# Altium footprint library PCB1.PcbLib: 40 footprints (part 1 of 3)
Each footprint in its own frame and in the unit in brackets; x right, y up, seen from the top. Pads: shape width x height; smd on the part's side, far side on the other; paste and mask are expansions set on the pad; w line width, h text height; cw(c..) or ccw(c..) is an arc to the next point about the centre after c.
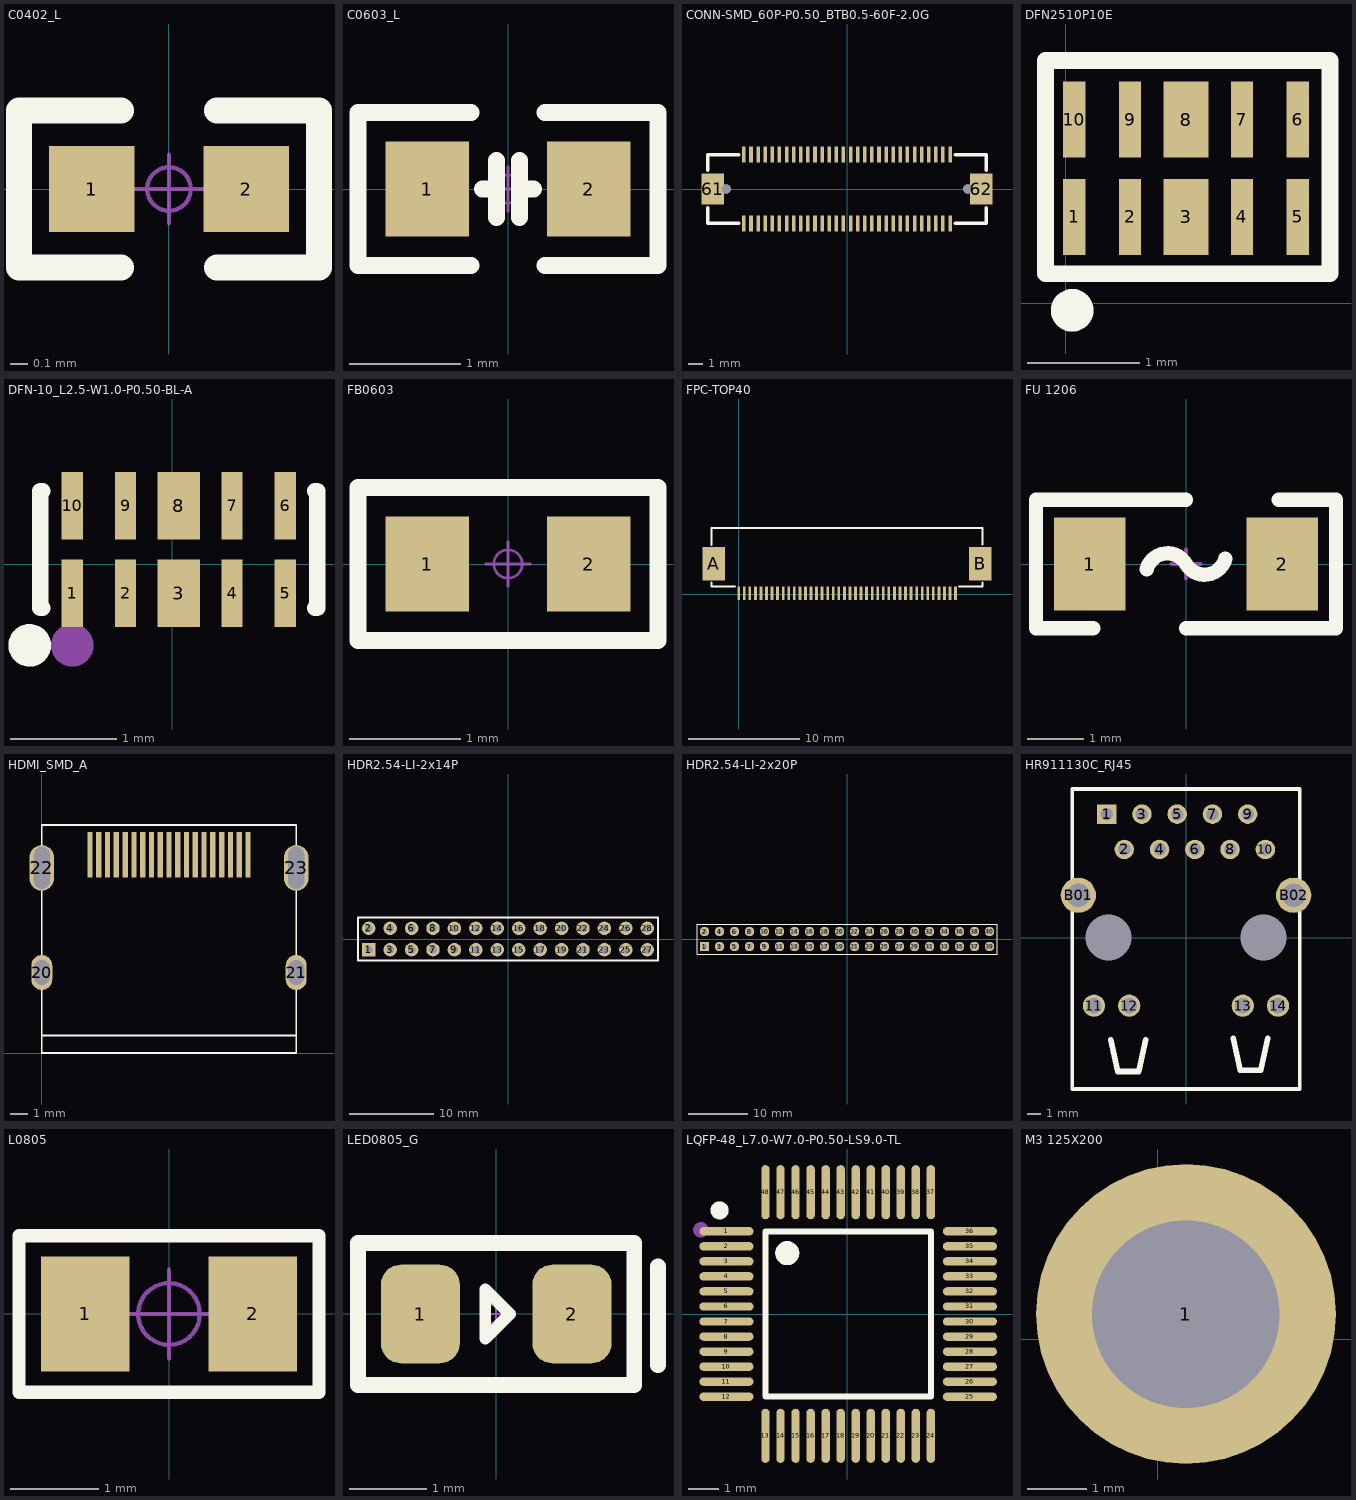
[diagram p0: the footprints below, top view; thin cyan lines are the x and y axes]

## C0402_L [mm]
pads (2):
  rect 0.5x0.5 smd: 1(-0.45,0) 2(0.45,0)
Top Overlay:
  lines w0.152: -0.279,-0.457 -0.875,-0.457 -0.875,0.457 -0.279,0.457 ; 0.279,-0.457 0.875,-0.457 0.875,0.457 0.279,0.457
Mechanical 15:
  circle w0.025: c0,0 r0.127
  lines w0.025: -0.2,0 0.2,0 ; 0,-0.2 0,0.2
3D body "C0402-B-2S.stp": height 0.5, standoff 0, extent -0.5,-0.25 0.5,0.25

## C0603_L [mm]
pads (2):
  rect 0.75x0.85 smd: 1(-0.725,0) 2(0.725,0)
Top Overlay:
  lines w0.152: -0.33,-0.686 -1.346,-0.686 -1.346,0.686 -0.33,0.686 ; -0.229,0 -0.102,0 ; -0.102,-0.254 -0.102,0.254 ; 0.102,-0.254 0.102,0.254 ; 0.102,0 0.229,0 ; 0.33,-0.686 1.346,-0.686 1.346,0.686 0.33,0.686
Mechanical 15:
  circle w0.025: c0,0 r0.127
  lines w0.025: -0.2,0 0.2,0 ; 0,-0.2 0,0.2
3D body "C0603H08-2S.stp": height 0.8, standoff 0, extent -0.8,-0.4 0.8,0.4

## CONN-SMD_60P-P0.50_BTB0.5-60F-2.0G [mm]
pads (64):
  rect 0.25x1.15 smd paste+0 mask+0.051: 1(-7.25,2.425) 2(-7.25,-2.425) 3(-6.75,2.425) 4(-6.75,-2.425) 5(-6.25,2.425) 6(-6.25,-2.425) 7(-5.75,2.425) 8(-5.75,-2.425) 9(-5.25,2.425) 10(-5.25,-2.425) 11(-4.75,2.425) 12(-4.75,-2.425) 13(-4.25,2.425) 14(-4.25,-2.425) 15(-3.75,2.425) 16(-3.75,-2.425) 17(-3.25,2.425) 18(-3.25,-2.425) 19(-2.75,2.425) 20(-2.75,-2.425) 21(-2.25,2.425) 22(-2.25,-2.425) 23(-1.75,2.425) 24(-1.75,-2.425) 25(-1.25,2.425) 26(-1.25,-2.425) 27(-0.75,2.425) 28(-0.75,-2.425) 29(-0.25,2.425) 30(-0.25,-2.425) 31(0.25,2.425) 32(0.25,-2.425) 33(0.75,2.425) 34(0.75,-2.425) 35(1.25,2.425) 36(1.25,-2.425) 37(1.75,2.425) 38(1.75,-2.425) 39(2.25,2.425) 40(2.25,-2.425) 41(2.75,2.425) 42(2.75,-2.425) 43(3.25,2.425) 44(3.25,-2.425) 45(3.75,2.425) 46(3.75,-2.425) 47(4.25,2.425) 48(4.25,-2.425) 49(4.75,2.425) 50(4.75,-2.425) 51(5.25,2.425) 52(5.25,-2.425) 53(5.75,2.425) 54(5.75,-2.425) 55(6.25,2.425) 56(6.25,-2.425) 57(6.75,2.425) 58(6.75,-2.425) 59(7.25,2.425) 60(7.25,-2.425)
  rect 1.6x2.2 smd paste+0 mask+0.051: 61(-9.45,0) 62(9.45,0)
  round 0.65 hole 0.65 unplated paste+0: ""(-8.5,0) ""(8.5,0)
Top Overlay:
  lines w0.254: -9.8,-1.331 -9.8,-2.4 -9.5,-2.4 ; -9.8,1.331 -9.8,2.4 -7.606,2.4 ; -9.7,-2.4 -7.606,-2.4 ; 7.606,-2.4 9.8,-2.4 9.8,-1.331 ; 7.606,2.4 9.8,2.4 9.8,1.331
Mechanical 15:
  circle w0.25: c-8.5,0 r0.125
  circle w0.25: c8.5,0 r0.125

## DFN2510P10E [mm]
pads (10):
  rect 0.2x0.68 smd: 1(0.075,0.771) 2(0.575,0.771) 4(1.575,0.771) 5(2.075,0.771) 6(2.075,1.641) 7(1.575,1.641) 9(0.575,1.641) 10(0.075,1.641)
  rect 0.4x0.68 smd: 3(1.075,0.771) 8(1.075,1.641)
Top Overlay:
  circle w0.254: c0.059,-0.064 r0.064
  lines w0.15: -0.179,0.263 -0.179,2.168 2.361,2.168 2.361,0.263 -0.179,0.263

## DFN-10_L2.5-W1.0-P0.50-BL-A [mm]
pads (10):
  rect 0.2x0.633 smd paste+0 mask+0.051: 1(-0.938,-0.276) 2(-0.438,-0.276) 4(0.562,-0.276) 5(1.062,-0.276) 6(1.062,0.548) 7(0.562,0.548) 9(-0.438,0.548) 10(-0.938,0.548)
  rect 0.4x0.633 smd paste+0 mask+0.051: 3(0.062,-0.276) 8(0.062,0.548)
Top Overlay:
  circle w0.2: c-1.338,-0.764 r0.1
  lines w0.152: -1.218,-0.414 -1.238,-0.414 -1.238,0.686 -1.218,0.686 ; 1.342,-0.414 1.362,-0.414 1.362,0.686 1.342,0.686
Mechanical 15:
  circle w0.2: c-0.938,-0.764 r0.1

## FB0603 [mm]
pads (2):
  rect 0.75x0.85 smd: 1(-0.725,0) 2(0.725,0)
Top Overlay:
  lines w0.152: -1.346,-0.686 1.346,-0.686 1.346,0.686 -1.346,0.686 -1.346,-0.686
Mechanical 15:
  circle w0.025: c0,0 r0.127
  lines w0.025: -0.2,0 0.2,0 ; 0,-0.2 0,0.2
3D body "L0603H08-2S.stp": height 0.8, standoff 0, extent -0.8,-0.4 0.8,0.4

## FPC-TOP40 [mm]
pads (42):
  rect 0.25x1.2 smd: 1(0,0.102) 2(0.5,0.102) 3(1,0.102) 4(1.5,0.102) 5(2,0.102) 6(2.5,0.102) 7(3,0.102) 8(3.5,0.102) 9(4,0.102) 10(4.5,0.102) 11(5,0.102) 12(5.5,0.102) 13(6,0.102) 14(6.5,0.102) 15(7,0.102) 16(7.5,0.102) 17(8,0.102) 18(8.5,0.102) 19(9,0.102) 20(9.5,0.102) 21(10,0.102) 22(10.5,0.102) 23(11,0.102) 24(11.5,0.102) 25(12,0.102) 26(12.5,0.102) 27(13,0.102) 28(13.5,0.102) 29(14,0.102) 30(14.5,0.102) 31(15,0.102) 32(15.5,0.102) 33(16,0.102) 34(16.5,0.102) 35(17,0.102) 36(17.5,0.102) 37(18,0.102) 38(18.5,0.102) 39(19,0.102) 40(19.5,0.102)
  rect 2x3 smd: A(-2.25,2.754) B(21.725,2.754)
Top Overlay:
  lines w0.127: -2.45,0.731 -2.438,0.719
  lines w0.152: -2.45,0.719 -0.305,0.719 ; -2.45,0.731 -2.45,1.067 ; -2.45,4.445 -2.45,5.969 21.925,5.969 21.925,4.47 ; 19.794,0.711 21.925,0.711 21.925,1.067

## FU 1206 [mil]
pads (2):
  rect 50x65 smd: 1(-67.5,0) 2(67.5,0)
Top Overlay:
  lines w10: -90,45 0,45 ; -65,-45 -105,-45 -105,45 -65,45 ; -27.48,-3.62 cw(c-12.99,-7.5) 0,0 ccw(c12.99,7.5) 27.48,3.62 ; 0,-45 90,-45 ; 65,-45 105,-45 105,45 65,45
Mechanical 15:
  lines w3: -10,0 10,0 ; 0,-10 0,10
3D body "FU 01206.STEP": height 34.25, standoff 0, extent -62.99,-31.89 62.99,31.89

## HDMI_SMD_A [mm]
pads (23):
  rect 0.3x2.6 smd: 1(11.75,11.31) 2(11.25,11.31) 3(10.75,11.31) 4(10.25,11.31) 5(9.75,11.31) 6(9.25,11.31) 7(8.75,11.31) 8(8.25,11.31) 9(7.75,11.31) 10(7.25,11.31) 11(6.75,11.31) 12(6.25,11.31) 13(5.75,11.31) 14(5.25,11.31) 15(4.75,11.31) 16(4.25,11.31) 17(3.75,11.31) 18(3.25,11.31) 19(2.75,11.31)
  oval 1.2x2 hole 0.9 slot 1.4 at 90 deg: 20(0,4.59) 21(14.5,4.59)
  oval 1.4x2.6 hole 0.9 slot 2.4 at 90 deg: 22(0,10.55) 23(14.5,10.55)
Top Overlay:
  lines w0.1: 0,1 14.5,1 ; 0,0 0,13 14.5,13 14.5,0 0,0

## HDR2.54-LI-2x14P [mm]
pads (28):
  rect 1.6x1.6 hole 0.9: 1(-16.51,-1.27)
  round 1.6 hole 0.9: 2(-16.51,1.27) 3(-13.97,-1.27) 4(-13.97,1.27) 5(-11.43,-1.27) 6(-11.43,1.27) 7(-8.89,-1.27) 8(-8.89,1.27) 9(-6.35,-1.27) 10(-6.35,1.27) 11(-3.81,-1.27) 12(-3.81,1.27) 13(-1.27,-1.27) 14(-1.27,1.27) 15(1.27,-1.27) 16(1.27,1.27) 17(3.81,-1.27) 18(3.81,1.27) 19(6.35,-1.27) 20(6.35,1.27) 21(8.89,-1.27) 22(8.89,1.27) 23(11.43,-1.27) 24(11.43,1.27) 25(13.97,-1.27) 26(13.97,1.27) 27(16.51,-1.27) 28(16.51,1.27)
Top Overlay:
  lines w0.2: -17.78,-2.54 -17.78,2.54 17.78,2.54 17.78,-2.54 -17.78,-2.54
3D body "HDR2.54-1x2P.STEP": height 8.5, standoff -3, extent -15.24,-2.54 -12.7,2.54
3D body "HDR2.54-1x2P.STEP": height 8.5, standoff -3, extent -17.78,-2.54 -15.24,2.54
3D body "HDR2.54-1x2P.STEP": height 8.5, standoff -3, extent -10.16,-2.54 -7.62,2.54
3D body "HDR2.54-1x2P.STEP": height 8.5, standoff -3, extent -12.7,-2.54 -10.16,2.54
3D body "HDR2.54-1x2P.STEP": height 8.5, standoff -3, extent -5.08,-2.54 -2.54,2.54
3D body "HDR2.54-1x2P.STEP": height 8.5, standoff -3, extent -7.62,-2.54 -5.08,2.54
3D body "HDR2.54-1x2P.STEP": height 8.5, standoff -3, extent 0,-2.54 2.54,2.54
3D body "HDR2.54-1x2P.STEP": height 8.5, standoff -3, extent -2.54,-2.54 0,2.54
3D body "HDR2.54-1x2P.STEP": height 8.5, standoff -3, extent 5.08,-2.54 7.62,2.54
3D body "HDR2.54-1x2P.STEP": height 8.5, standoff -3, extent 2.54,-2.54 5.08,2.54
3D body "HDR2.54-1x2P.STEP": height 8.5, standoff -3, extent 10.16,-2.54 12.7,2.54
3D body "HDR2.54-1x2P.STEP": height 8.5, standoff -3, extent 7.62,-2.54 10.16,2.54
3D body "HDR2.54-1x2P.STEP": height 8.5, standoff -3, extent 15.24,-2.54 17.78,2.54
3D body "HDR2.54-1x2P.STEP": height 8.5, standoff -3, extent 12.7,-2.54 15.24,2.54

## HDR2.54-LI-2x20P [mm]
pads (40):
  rect 1.6x1.6 hole 0.9: 1(-24.13,-1.27)
  round 1.6 hole 0.9: 2(-24.13,1.27) 3(-21.59,-1.27) 4(-21.59,1.27) 5(-19.05,-1.27) 6(-19.05,1.27) 7(-16.51,-1.27) 8(-16.51,1.27) 9(-13.97,-1.27) 10(-13.97,1.27) 11(-11.43,-1.27) 12(-11.43,1.27) 13(-8.89,-1.27) 14(-8.89,1.27) 15(-6.35,-1.27) 16(-6.35,1.27) 17(-3.81,-1.27) 18(-3.81,1.27) 19(-1.27,-1.27) 20(-1.27,1.27) 21(1.27,-1.27) 22(1.27,1.27) 23(3.81,-1.27) 24(3.81,1.27) 25(6.35,-1.27) 26(6.35,1.27) 27(8.89,-1.27) 28(8.89,1.27) 29(11.43,-1.27) 30(11.43,1.27) 31(13.97,-1.27) 32(13.97,1.27) 33(16.51,-1.27) 34(16.51,1.27) 35(19.05,-1.27) 36(19.05,1.27) 37(21.59,-1.27) 38(21.59,1.27) 39(24.13,-1.27) 40(24.13,1.27)
Top Overlay:
  lines w0.2: -25.4,-2.54 -25.4,2.54 25.4,2.54 25.4,-2.54 -25.4,-2.54
3D body "HDR2.54-1x2P.STEP": height 8.5, standoff -3, extent -22.86,-2.54 -20.32,2.54
3D body "HDR2.54-1x2P.STEP": height 8.5, standoff -3, extent -25.4,-2.54 -22.86,2.54
3D body "HDR2.54-1x2P.STEP": height 8.5, standoff -3, extent -17.78,-2.54 -15.24,2.54
3D body "HDR2.54-1x2P.STEP": height 8.5, standoff -3, extent -20.32,-2.54 -17.78,2.54
3D body "HDR2.54-1x2P.STEP": height 8.5, standoff -3, extent -12.7,-2.54 -10.16,2.54
3D body "HDR2.54-1x2P.STEP": height 8.5, standoff -3, extent -15.24,-2.54 -12.7,2.54
3D body "HDR2.54-1x2P.STEP": height 8.5, standoff -3, extent -7.62,-2.54 -5.08,2.54
3D body "HDR2.54-1x2P.STEP": height 8.5, standoff -3, extent -10.16,-2.54 -7.62,2.54
3D body "HDR2.54-1x2P.STEP": height 8.5, standoff -3, extent -2.54,-2.54 0,2.54
3D body "HDR2.54-1x2P.STEP": height 8.5, standoff -3, extent -5.08,-2.54 -2.54,2.54
3D body "HDR2.54-1x2P.STEP": height 8.5, standoff -3, extent 2.54,-2.54 5.08,2.54
3D body "HDR2.54-1x2P.STEP": height 8.5, standoff -3, extent 0,-2.54 2.54,2.54
3D body "HDR2.54-1x2P.STEP": height 8.5, standoff -3, extent 7.62,-2.54 10.16,2.54
3D body "HDR2.54-1x2P.STEP": height 8.5, standoff -3, extent 5.08,-2.54 7.62,2.54
3D body "HDR2.54-1x2P.STEP": height 8.5, standoff -3, extent 12.7,-2.54 15.24,2.54
3D body "HDR2.54-1x2P.STEP": height 8.5, standoff -3, extent 10.16,-2.54 12.7,2.54
3D body "HDR2.54-1x2P.STEP": height 8.5, standoff -3, extent 17.78,-2.54 20.32,2.54
3D body "HDR2.54-1x2P.STEP": height 8.5, standoff -3, extent 15.24,-2.54 17.78,2.54
3D body "HDR2.54-1x2P.STEP": height 8.5, standoff -3, extent 22.86,-2.54 25.4,2.54
3D body "HDR2.54-1x2P.STEP": height 8.5, standoff -3, extent 20.32,-2.54 22.86,2.54

## HR911130C_RJ45 [mm]
pads (18):
  rect 1.4x1.4 hole 0.9: 1(-5.715,8.89)
  round 1.4 hole 0.9: 2(-4.445,6.35) 3(-3.175,8.89) 4(-1.905,6.35) 5(-0.635,8.89) 6(0.635,6.35) 7(1.905,8.89) 8(3.175,6.35) 9(4.445,8.89) 10(5.715,6.35)
  round 1.6 hole 1.1: 11(-6.625,-4.9) 12(-4.09,-4.9) 13(4.09,-4.9) 14(6.625,-4.9)
  round 2.54 hole 1.7: B01(-7.75,3.05) B02(7.75,3.05)
  round 0 hole 3.3 unplated: BO3(-5.57,0) BO4(5.57,0)
Top Overlay:
  lines w0.254: -8.2,-10.9 8.2,-10.9 8.2,10.7 -8.2,10.7 -8.2,-10.9
  lines w0.4: -5.404,-7.338 -4.904,-9.638 -3.404,-9.638 -2.904,-7.338 ; 3.396,-7.238 3.896,-9.538 5.396,-9.538 5.896,-7.238

## L0805 [mm]
height 0.5
pads (2):
  rect 1x1.3 smd: 1(-0.95,0) 2(0.95,0)
Top Overlay:
  lines w0.152: -1.702,-0.889 1.702,-0.889 1.702,0.889 -1.702,0.889 -1.702,-0.889
Mechanical 15:
  circle w0.05: c0,0 r0.35
  lines w0.05: -0.5,0 0.5,0 ; 0,-0.5 0,0.5
3D body "L0805H13-2S.stp": height 1.3, standoff 0, extent -1,-0.65 1,0.65

## LED0805_G [mil]
pads (2):
  rrect50% 40x50 smd: 1(-38.4,0) 2(38.4,0)
Top Overlay:
  lines w6: -5.5,-12.5 -5.5,12.5 7,0 -5.5,-12.5
  lines w8: 82,-26 82,24 ; -70,-36 70,-36 70,36 -70,36 -70,-36
Mechanical 15:
  circle w1: c0,0 r5
  lines w1: -7.87,0 7.87,0 ; 0,-7.87 0,7.87
3D body "LED 0805玻璃罩.STEP": height 31.69, standoff 12.01, extent -29.53,-24.6 29.53,24.6
3D body "LED_0805-G.STEP": height 26.34, standoff -0.04, extent -39.37,-24.65 39.37,24.64

## LQFP-48_L7.0-W7.0-P0.50-LS9.0-TL [mm]
pads (48):
  oval 1.8x0.28 smd paste+0 mask+0.051: 1(-4.012,2.75) 2(-4.012,2.25) 3(-4.012,1.75) 4(-4.012,1.25) 5(-4.012,0.75) 6(-4.012,0.25) 7(-4.012,-0.25) 8(-4.012,-0.75) 9(-4.012,-1.25) 10(-4.012,-1.75) 11(-4.012,-2.25) 12(-4.012,-2.75) 25(4.088,-2.75) 26(4.088,-2.25) 27(4.088,-1.75) 28(4.088,-1.25) 29(4.088,-0.75) 30(4.088,-0.25) 31(4.088,0.25) 32(4.088,0.75) 33(4.088,1.25) 34(4.088,1.75) 35(4.088,2.25) 36(4.088,2.75)
  oval 0.28x1.8 smd paste+0 mask+0.051: 13(-2.712,-4.05) 14(-2.211,-4.05) 15(-1.712,-4.05) 16(-1.211,-4.05) 17(-0.712,-4.05) 18(-0.211,-4.05) 19(0.288,-4.05) 20(0.789,-4.05) 21(1.288,-4.05) 22(1.789,-4.05) 23(2.288,-4.05) 24(2.789,-4.05) 37(2.789,4.05) 38(2.288,4.05) 39(1.789,4.05) 40(1.288,4.05) 41(0.789,4.05) 42(0.288,4.05) 43(-0.211,4.05) 44(-0.712,4.05) 45(-1.211,4.05) 46(-1.712,4.05) 47(-2.211,4.05) 48(-2.712,4.05)
Top Overlay:
  lines w0.2: -2.712,-2.75 -2.712,2.75 2.788,2.75 2.788,-2.75 -2.712,-2.75
  lines w0.3: -4.087,3.447 cw(c-4.237,3.448) -4.087,3.449
  lines w0.4: -1.788,2.022 cw(c-1.988,2.023) -1.788,2.024
Mechanical 15:
  circle w0.254: c-4.861,2.8 r0.127

## M3 125X200 [mm]
pads (1):
  round 5.08 hole 3.175: 1(0.475,0.429)